# Altium footprint library 5050040812.PcbLib: 1 footprints
Each footprint in its own frame and in the unit in brackets; x right, y up, seen from the top. Pads: shape width x height; smd on the part's side, far side on the other; paste and mask are expansions set on the pad; w line width, h text height; cw(c..) or ccw(c..) is an arc to the next point about the centre after c.
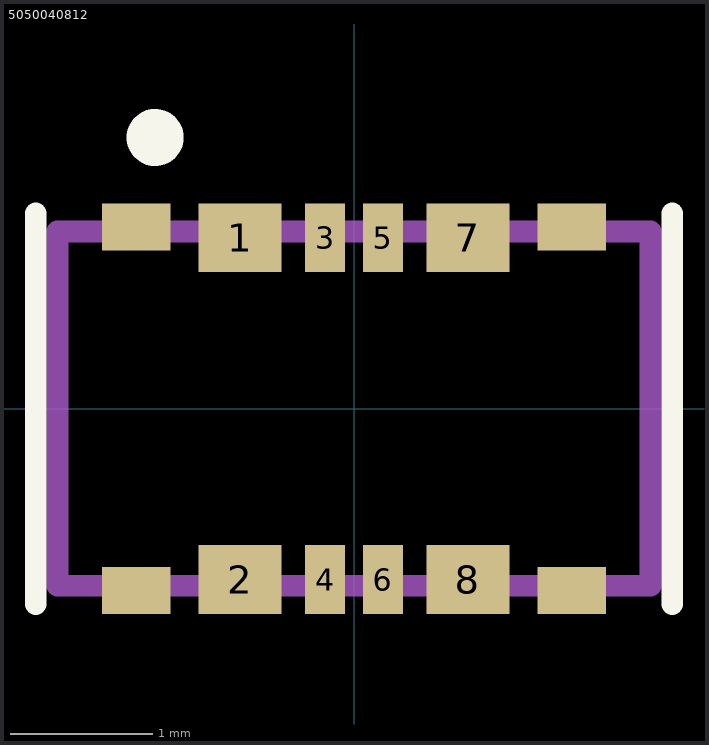
[diagram p0: the footprint, top view; thin cyan lines are the x and y axes]

## 5050040812 [mil]
pads (12):
  rect 23x19 smd mask+1.97: 1(-31.5,47.24) 2(-31.5,-47.24) 7(31.5,47.24) 8(31.5,-47.24)
  rect 11x19 smd mask+1.97: 3(-8,47.24) 4(-8,-47.24) 5(8,47.24) 6(8,-47.24)
  rect 19x13 smd mask+1.97: ""(-60.24,-50.24) ""(-60.24,50.24) ""(60.24,-50.24) ""(60.24,50.24)
Top Overlay:
  circle w7.87: c-55,75 r3.94
  lines w6: -88,-54 -88,54 ; 88,-54 88,54
Top 3D Body:
  lines w6: -82,-49 82,-49 82,49 -82,49 -82,-49
3D body "5050040812.x_t": height 28.74, standoff -0.79, extent -82.68,-49.21 82.68,49.21